# Altium schematic symbol library Schlib1.SchLib: 12 symbols
Pins are listed as number, name and electrical type; pins without a type are passive.

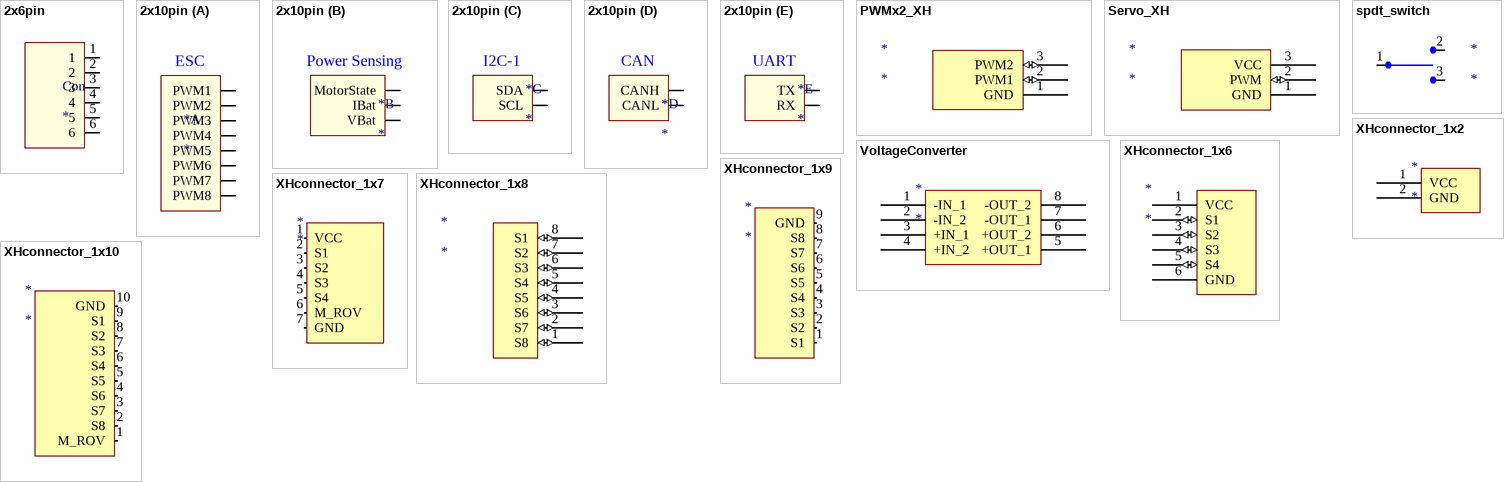
[diagram p0: symbols 2x6pin to XHconnector_1x10]

## 2x6pin
designator Con
footprint 2x6pin
pins: 1 (power), 2 (power), 3 (power), 4 (power), 5 (power), 6 (power)

## 2x10pin
designator *
footprint 2x10pin
part A pins: 1 PWM1, 2 PWM2, 3 PWM3, 4 PWM4, 5 PWM5, 6 PWM6, 7 PWM7, 8 PWM8
part B pins: 10 MotorState, 11 IBat, 12 VBat
part C pins: 13 SDA, 14 SCL
part D pins: 15 CANH, 16 CANL
part E pins: 19 TX, 20 RX
part A text: ESC
part B text: Power Sensing
part C text: I2C-1
part D text: CAN
part E text: UART

## PWMx2_XH
designator *
footprint XH1x3
pins: 1 GND (power), 2 PWM1 (io), 3 PWM2 (io)

## Servo_XH
designator *
footprint XH1x3
pins: 1 GND (power), 2 PWM (io), 3 VCC (power)

## spdt_switch
designator *
footprint SPDT_SWITCH
pins: 1, 2, 3

## VoltageConverter
designator *
footprint converter
pins: 1 -IN_1, 2 -IN_2, 3 +IN_1 (power), 4 +IN_2 (power), 5 +OUT_1, 6 +OUT_2, 7 -OUT_1 (power), 8 -OUT_2 (power)

## XHconnector_1x2
designator *
footprint XH1x2
pins: 1 VCC (power), 2 GND (power)

## XHconnector_1x6
designator *
footprint XH1x6
pins: 1 VCC (power), 2 S1 (io), 3 S2 (io), 4 S3 (io), 5 S4 (io), 6 GND (power)

## XHconnector_1x7
designator *
footprint XH1x7
pins: 1 VCC (power), 2 S1 (io), 3 S2 (io), 4 S3 (io), 5 S4 (io), 6 M_ROV (io), 7 GND (power)

## XHconnector_1x8
designator *
footprint XH1x8
pins: 1 S8 (io), 2 S7 (io), 3 S6 (io), 4 S5 (io), 5 S4 (io), 6 S3 (io), 7 S2 (io), 8 S1 (io)

## XHconnector_1x9
designator *
footprint XH1x9
pins: 1 S1 (io), 2 S2 (io), 3 S3 (io), 4 S4 (io), 5 S5 (io), 6 S6 (io), 7 S7 (io), 8 S8 (io), 9 GND (io)

## XHconnector_1x10
designator *
footprint XH1x10
pins: 1 M_ROV (in), 2 S8 (in), 3 S7 (in), 4 S6 (in), 5 S5 (in), 6 S4 (in), 7 S3 (in), 8 S2 (in), 9 S1 (in), 10 GND (in)